# EAGLE library part P/S2 (library chuong)
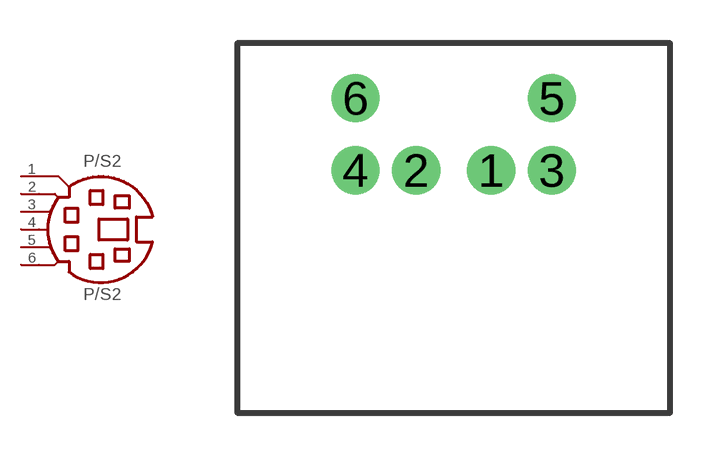
[diagram p16: symbol with the pads of P/S2; footprint P/S2]

Designator prefix P/S2

## P/S2  [P/S2]
1  1  pas
2  2  pas
3  3  pas
4  4  pas
5  5  pas
6  6  pas

## Footprint P/S2 (pad centres in mm)
drill 0.61 pad 1.676 round: 1 1.147,2.777; 2 -1.453,2.777; 3 3.247,2.777; 4 -3.553,2.777; 5 3.247,5.277; 6 -3.553,5.277